# Altium schematic symbol library RAM.SchLib: 3 symbols
Pins are listed as number, name and electrical type; pins without a type are passive.

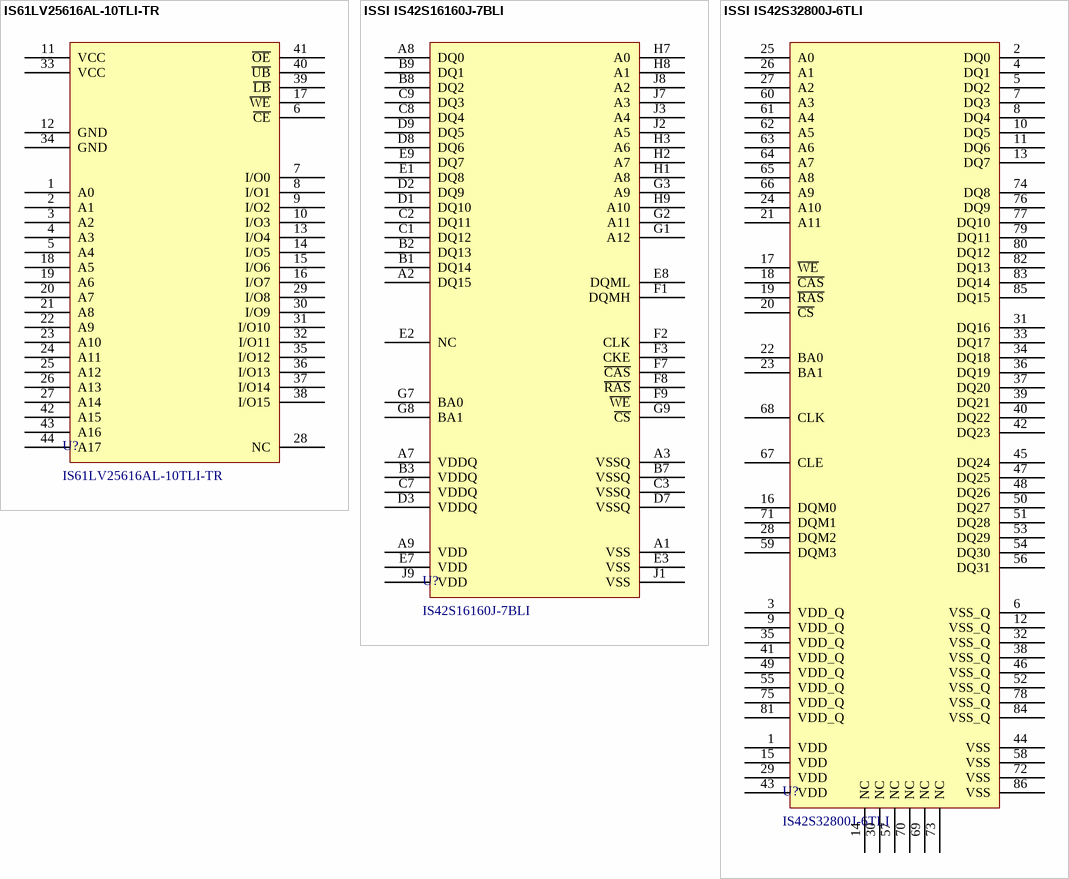
[diagram p0: symbols IS61LV25616AL-10TLI-TR to ISSI IS42S32800J-6TLI]

## IS61LV25616AL-10TLI-TR
designator U?
256K x 16 HIGH SPEED ASYNCHRONOUS CMOS STATIC RAM WITH 3.3V SUPPLY; Manufacturer: ISSI; Active Read Current - Max: Active; Interface Type: Parallel; Maximum Clock Frequency: 100 MHz; Memory Size: 4 Mbit; Supply Voltage - Max: 3.6 V; Supply Voltage - Min: 3.1 V; Supplier 1 URL: https://www.mouser.vn/ProductDetail/ISSI/IS61LV25616AL-10TLI-TR?qs=YdQ7Kj7W0bwd5Hs%252BZkTrDw%3D%3D; Supplier 2 URL: https://www.digikey.com/en/products/detail/gigadevice-semiconductor-hk-limited/GD25Q64CSIGR/9484691?s=N4IgTCBcDaIOIBEwFYCKA2ALAYQMoEk4AlEAXQF8g; Supplier 3 URL: https://www.digikey.com/en/products/detail/issi-integrated-silicon-solution-inc/is61lv25616al-10tli-tr/1557305; Value: IS61LV25616AL-10TLI-TR; Manufacturer Part Number: IS61LV25616AL-10TLI-TR; Packaging: Tape and Reel; Supplier 1: Mouser; Supplier 1 Part Number: 87061LV25616AL10TLIT; Supplier 2: Digi-Key; Supplier 2 Part Number: 706-1305-2-ND; Supplier 3: thegioiic; Supplier 3 Part Number: N/A; Mount: SMD/SMT; Operating Temperature Max: + 85 C; Operating Temperature Min: - 40 C; Package / Case: 44-TSOP; ComponentLink1Description: Datasheet; ComponentLink1URL: https://www.mouser.vn/datasheet/2/198/61LV25616AL-258498.pdf; Data Bus Width: N/A; LCSC Part #: N/A; Organization: N/A; Type: N/A
footprint IS61LV25616AL-10TLI-TR (TSOP, 44-Leads, Body 18.41x10.16mm, Pitch 0.80mm, IPC Medium Density)
pins: 1 A0, 2 A1, 3 A2, 4 A3, 5 A4, 6 ~{CE}, 7 I/O0, 8 I/O1, 9 I/O2, 10 I/O3, 11 VCC, 12 GND, 13 I/O4, 14 I/O5, 15 I/O6, 16 I/O7, 17 ~{WE}, 18 A5, 19 A6, 20 A7, 21 A8, 22 A9, 23 A10, 24 A11, 25 A12, 26 A13, 27 A14, 28 NC, 29 I/O8, 30 I/O9, 31 I/O10, 32 I/O11, 33 VCC, 34 GND, 35 I/O12, 36 I/O13, 37 I/O14, 38 I/O15, 39 ~{LB}, 40 ~{UB}, 41 ~{OE}, 42 A15, 43 A16, 44 A17

## ISSI IS42S16160J-7BLI
designator U?, comment IS42S16160J-7BLI
3V~3.6V 256Mbit 166MHz TFBGA-54(8x8) Memory (ICs) RoHS; Manufacturer: ISSI; Active Read Current - Max: Active; Interface Type: Parallel; Maximum Clock Frequency: 143 MHz; Supply Voltage - Max: 3.6 V; Supply Voltage - Min: 3.1 V; Data Bus Width: 16 bit; Organization: 16 M x 16; Memory Size: 256 Mbit; Supplier 1 URL: https://www.mouser.com/ProductDetail/ISSI/IS42S32800J-6TLI?qs=bHq4TaS7gBc%252BvjUv2CnfCg%3D%3D; Supplier 2 URL: https://www.digikey.com/en/products/detail/issi-integrated-silicon-solution-inc/is42s32800j-6tli/5319846; Supplier 3 URL: https://www.digikey.com/en/products/detail/issi-integrated-silicon-solution-inc/is61lv25616al-10tli-tr/1557305; Value: IS42S16160J-7BLI; Manufacturer Part Number: IS42S16160J-7BLI; Packaging: Tape and Reel; Supplier 1: Mouser; Supplier 1 Part Number: 870-42S32800J6TLI; Supplier 2: Digi-Key; Supplier 2 Part Number: IS42S32800J-6TLI-ND; Supplier 3: thegioiic; Supplier 3 Part Number: N/A; Mount: SMD/SMT; Operating Temperature Max: + 85 C; Operating Temperature Min: - 40 C; Package / Case: TFBGA-54(8x8); ComponentLink1Description: Datasheet; ComponentLink1URL: https://www.lcsc.com/datasheet/C1348766.pdf; LCSC Part #: C1348766; Type: SDRAM
pins: A1 VSS, A2 DQ15, A3 VSSQ, A7 VDDQ, A8 DQ0, A9 VDD, B1 DQ14, B2 DQ13, B3 VDDQ, B7 VSSQ, B8 DQ2, B9 DQ1, C1 DQ12, C2 DQ11, C3 VSSQ, C7 VDDQ, C8 DQ4, C9 DQ3, D1 DQ10, D2 DQ9, D3 VDDQ, D7 VSSQ, D8 DQ6, D9 DQ5, E1 DQ8, E2 NC, E3 VSS, E7 VDD, E8 DQML, E9 DQ7, F1 DQMH, F2 CLK, F3 CKE, F7 ~{CAS}, F8 ~{RAS}, F9 ~{WE}, G1 A12, G2 A11, G3 A9, G7 BA0, G8 BA1, G9 ~{CS}, H1 A8, H2 A7, H3 A6, H7 A0, H8 A1, H9 A10, J1 VSS, J2 A5, J3 A4, J7 A3, J8 A2, J9 VDD

## ISSI IS42S32800J-6TLI
designator U?, comment IS42S32800J-6TLI
3V~3.6V 256Mbit 166MHz TSOP-86-10.2mm Memory (ICs) RoHS; Manufacturer: ISSI; Active Read Current - Max: Active; Interface Type: Parallel; Supply Voltage - Max: 3.6 V; Supply Voltage - Min: 3.1 V; Data Bus Width: 32 bit; Organization: 8 M x 32; Maximum Clock Frequency: 166 MHz; Memory Size: 256 Mbit; Supplier 1 URL: https://www.mouser.com/ProductDetail/ISSI/IS42S32800J-6TLI?qs=bHq4TaS7gBc%252BvjUv2CnfCg%3D%3D; Supplier 2 URL: https://www.digikey.com/en/products/detail/issi-integrated-silicon-solution-inc/is42s32800j-6tli/5319846; Supplier 3 URL: https://www.digikey.com/en/products/detail/issi-integrated-silicon-solution-inc/is61lv25616al-10tli-tr/1557305; Value: IS42S32800J-6TLI; Manufacturer Part Number: IS42S32800J-6TLI; Packaging: Tape and Reel; Supplier 1: Mouser; Supplier 1 Part Number: 870-42S32800J6TLI; Supplier 2: Digi-Key; Supplier 2 Part Number: IS42S32800J-6TLI-ND; Supplier 3: thegioiic; Supplier 3 Part Number: N/A; Mount: SMD/SMT; Operating Temperature Max: + 85 C; Operating Temperature Min: - 40 C; Package / Case: TSOP-II-86; ComponentLink1Description: Datasheet; ComponentLink1URL: https://www.lcsc.com/datasheet/C1351836.pdf; LCSC Part #: C1351836; Type: SDRAM
footprint IS42S32800J-6TLI (TSSOP, 86-Leads, Body 22.22x10.16mm, Pitch 0.50mm, IPC Medium Density)
ibis 42s16160J-T (Model Description)
pins: 1 VDD, 2 DQ0, 3 VDD_Q, 4 DQ1, 5 DQ2, 6 VSS_Q, 7 DQ3, 8 DQ4, 9 VDD_Q, 10 DQ5, 11 DQ6, 12 VSS_Q, 13 DQ7, 14 NC, 15 VDD, 16 DQM0, 17 ~{WE}, 18 ~{CAS}, 19 ~{RAS}, 20 ~{CS}, 21 A11, 22 BA0, 23 BA1, 24 A10, 25 A0, 26 A1, 27 A2, 28 DQM2, 29 VDD, 30 NC, 31 DQ16, 32 VSS_Q, 33 DQ17, 34 DQ18, 35 VDD_Q, 36 DQ19, 37 DQ20, 38 VSS_Q, 39 DQ21, 40 DQ22, 41 VDD_Q, 42 DQ23, 43 VDD, 44 VSS, 45 DQ24, 46 VSS_Q, 47 DQ25, 48 DQ26, 49 VDD_Q, 50 DQ27, 51 DQ28, 52 VSS_Q, 53 DQ29, 54 DQ30, 55 VDD_Q, 56 DQ31, 57 NC, 58 VSS, 59 DQM3, 60 A3, 61 A4, 62 A5, 63 A6, 64 A7, 65 A8, 66 A9, 67 CLE, 68 CLK, 69 NC, 70 NC, 71 DQM1, 72 VSS, 73 NC, 74 DQ8, 75 VDD_Q, 76 DQ9, 77 DQ10, 78 VSS_Q, 79 DQ11, 80 DQ12, 81 VDD_Q, 82 DQ13, 83 DQ14, 84 VSS_Q, 85 DQ15, 86 VSS